# Altium schematic symbol library Dzr_SchLib.SchLib: 2 symbols
Pins are listed as number, name and electrical type; pins without a type are passive.

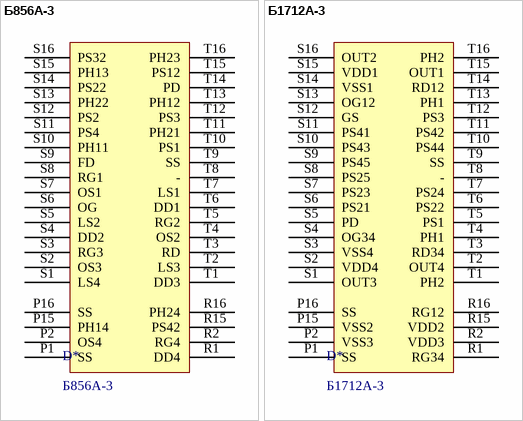
[diagram p0: symbols Б856А-3 to Б1712А-3]

## Б856А-3
designator D*
footprint Dzr_place
pins: P1 SS, P2 OS4, P15 PH14, P16 SS, R1 DD4, R2 RG4, R15 PS42, R16 PH24, S1 LS4, S2 OS3, S3 RG3, S4 DD2, S5 LS2, S6 OG, S7 OS1, S8 RG1, S9 FD, S10 PH11, S11 PS4, S12 PS2, S13 PH22, S14 PS22, S15 PH13, S16 PS32, T1 DD3, T2 LS3, T3 RD, T4 OS2, T5 RG2, T6 DD1, T7 LS1, T8 -, T9 SS, T10 PS1, T11 PH21, T12 PS3, T13 PH12, T14 PD, T15 PS12, T16 PH23

## Б1712А-3
designator D*
footprint Dzr_place
pins: P1 SS, P2 VSS3, P15 VSS2, P16 SS, R1 RG34, R2 VDD3, R15 VDD2, R16 RG12, S1 OUT3, S2 VDD4, S3 VSS4, S4 OG34, S5 PD, S6 PS21, S7 PS23, S8 PS25, S9 PS45, S10 PS43, S11 PS41, S12 GS, S13 OG12, S14 VSS1, S15 VDD1, S16 OUT2, T1 PH2, T2 OUT4, T3 RD34, T4 PH1, T5 PS1, T6 PS22, T7 PS24, T8 -, T9 SS, T10 PS44, T11 PS42, T12 PS3, T13 PH1, T14 RD12, T15 OUT1, T16 PH2